# EAGLE library part XB32AC (library connectors)
Backplane connector 32 pins Used planes A+C
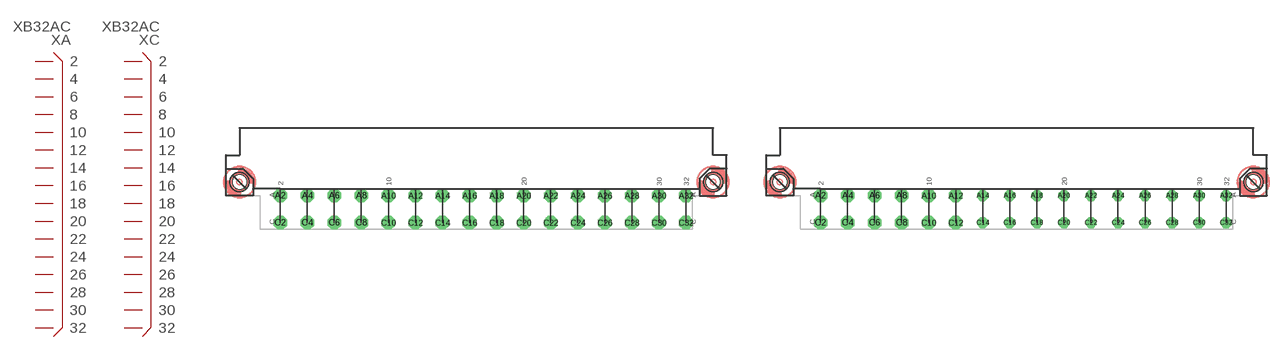
[diagram p1: symbol with the pads of XB32AC; footprints XB32AC, XB32AC-GEO]

Designator prefix X; gates A=XB16 C=XB16

## XB32AC  [XB32AC]
A2  A:2
A4  A:4
A6  A:6
A8  A:8
A10  A:10
A12  A:12
A14  A:14
A16  A:16
A18  A:18
A20  A:20
A22  A:22
A24  A:24
A26  A:26
A28  A:28
A30  A:30
A32  A:32
C2  C:2
C4  C:4
C6  C:6
C8  C:8
C10  C:10
C12  C:12
C14  C:14
C16  C:16
C18  C:18
C20  C:20
C22  C:22
C24  C:24
C26  C:26
C28  C:28
C30  C:30
C32  C:32

## XB32AC-GEO  [XB32AC-GEO]
Pads as for XB32AC

## Footprint XB32AC (pad centres in mm)
Backplane connector 32 pins Used planes A+C
drill 0.813 pad 2.54 octagon: A2 0,5.08; A4 5.08,5.08; A6 10.16,5.08; A8 15.24,5.08; A10 20.32,5.08; A12 25.4,5.08; A14 30.48,5.08; A16 35.56,5.08; A18 40.64,5.08; A20 45.72,5.08; A22 50.8,5.08; A24 55.88,5.08; A26 60.96,5.08; A28 66.04,5.08; A30 71.12,5.08; A32 76.2,5.08; C2 0,0; C4 5.08,0; C6 10.16,0; C8 15.24,0; C10 20.32,0; C12 25.4,0; C14 30.48,0; C16 35.56,0; C18 40.64,0; C20 45.72,0; C22 50.8,0; C24 55.88,0; C26 60.96,0; C28 66.04,0; C30 71.12,0; C32 76.2,0
hole 2.692 at -7.62,7.62
hole 2.692 at 81.28,7.62

## Footprint XB32AC-GEO (pad centres in mm)
Backplane connector 32 pins Used planes A+C, pads A12-A32 and C12-C32 with smaller diameter
drill 0.813 pad 2.54 octagon: A2 0,5.08; A4 5.08,5.08; A6 10.16,5.08; A8 15.24,5.08; A10 20.32,5.08; A12 25.4,5.08; C2 0,0; C4 5.08,0; C6 10.16,0; C8 15.24,0; C10 20.32,0; C12 25.4,0
drill 0.813 pad 2.032 octagon: A14 30.48,5.08; A16 35.56,5.08; A18 40.64,5.08; A20 45.72,5.08; A22 50.8,5.08; A24 55.88,5.08; A26 60.96,5.08; A28 66.04,5.08; A30 71.12,5.08; A32 76.2,5.08; C14 30.48,0; C16 35.56,0; C18 40.64,0; C20 45.72,0; C22 50.8,0; C24 55.88,0; C26 60.96,0; C28 66.04,0; C30 71.12,0; C32 76.2,0
hole 2.692 at -7.62,7.62
hole 2.692 at 81.28,7.62